# Altium schematic symbol library MDBT50_52820_SCHLIB_210706.SchLib: 1 symbol
Pins are listed as number, name and electrical type; pins without a type are passive.

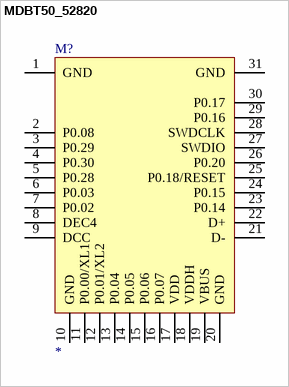
[diagram p0: symbol MDBT50_52820]

## MDBT50_52820
designator M?
MDBT50_52820
footprint MDBT50
pins: 1 GND, 2 P0.08, 3 P0.29, 4 P0.30, 5 P0.28, 6 P0.03, 7 P0.02, 8 DEC4, 9 DCC, 10 GND, 11 P0.00/XL1, 12 P0.01/XL2, 13 P0.04, 14 P0.05, 15 P0.06, 16 P0.07, 17 VDD, 18 VDDH, 19 VBUS, 20 GND, 21 D-, 22 D+, 23 P0.14, 24 P0.15, 25 P0.18/RESET, 26 P0.20, 27 SWDIO, 28 SWDCLK, 29 P0.16, 30 P0.17, 31 GND